# Altium schematic symbol library Header 2X24.SchLib: 1 symbol
Pins are listed as number, name and electrical type; pins without a type are passive.

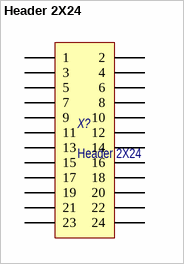
[diagram p0: symbol Header 2X24]

## Header 2X24
designator X?
Header, 24-Pin, Dual row; Потребление, Вт: 0,0; Назначение: Header, 24-Pin, Dual row; Наименование: Header 2X24
footprint PLD2-24R
pins: 1, 2, 3, 4, 5, 6, 7, 8, 9, 10, 11, 12, 13, 14, 15, 16, 17, 18, 19, 20, 21, 22, 23, 24